# Altium schematic symbol library Power_connector.SchLib: 1 symbol
Pins are listed as number, name and electrical type; pins without a type are passive.

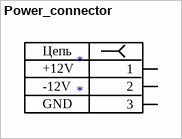
[diagram p0: symbol Power_connector]

## Power_connector
designator *
pins: ?1 1, ?2 2, ?3 3
text: Цепь; +12V; -12V; GND